# EAGLE library part CD74HC238E (library gc-1000-gps custom lib)
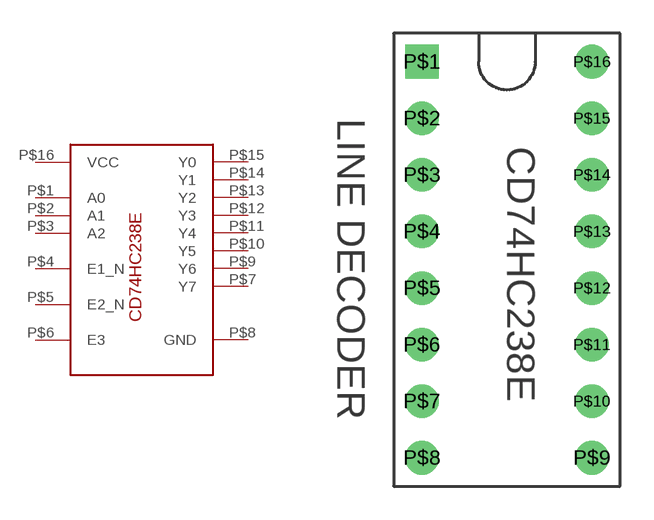
[diagram p2: symbol with the pads of CD74HC238E; footprint CD74HC238E]

Designator prefix -

## CD74HC238E  [CD74HC238E]
P$1  A0
P$2  A1
P$3  A2
P$4  E1_N
P$5  E2_N
P$6  E3
P$7  Y7
P$8  GND
P$9  Y6
P$10  Y5
P$11  Y4
P$12  Y3
P$13  Y2
P$14  Y1
P$15  Y0
P$16  VCC

## Footprint CD74HC238E (pad centres in mm)
drill 1 square: P$1 -3.81,8.89
drill 1: P$2 -3.81,6.35; P$3 -3.81,3.81; P$4 -3.81,1.27; P$5 -3.81,-1.27; P$6 -3.81,-3.81; P$7 -3.81,-6.35; P$8 -3.81,-8.89; P$9 3.81,-8.89; P$10 3.81,-6.35; P$11 3.81,-3.81; P$12 3.81,-1.27; P$13 3.81,1.27; P$14 3.81,3.81; P$15 3.81,6.35; P$16 3.81,8.89